# Altium integrated library ALSR033K000FE12.IntLib: 1 symbol
Pins are listed as number, name and electrical type; pins without a type are passive.

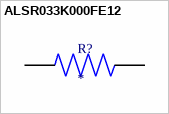
[diagram p0: symbol ALSR033K000FE12]

## ALSR033K000FE12
designator R?
MP: ALSR033K000FE12; Package: None; Price: None; Value: *; Availability: Unavailable
footprint RESAD1869W81L1270D457
pins: 1, 2